# Altium integrated library SFH_4545.IntLib: 1 symbol
Pins are listed as number, name and electrical type; pins without a type are passive.

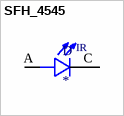
[diagram p0: symbol SFH_4545]

## SFH_4545
designator D
Infrared _IR_ Emitter 950nm 1.5V 100mA 550mW/sr @ 100mA 10Â° Radial; MF: OSRAM Opto; Price: None; Value: *; Package: Radial Osram Opto; Availability: Unavailable; SnapEDA_Link: https://www.snapeda.com/parts/SFH%204545/OSRAM%20Opto%20Semiconductors%20Inc./view-part/78935/?ref=snap; MP: SFH 4545
footprint DIO_SFH_4545
pins: A, C
text: IR